# EAGLE library part 24FC1025 (library SCADA_CUSTOM_LIBRARY)
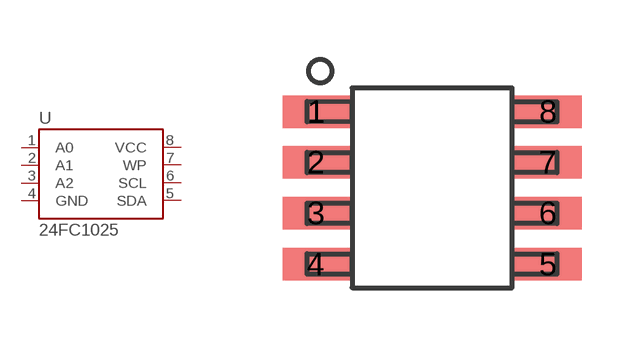
[diagram p18: symbol with the pads of 8-SOIC_HAND_SOLDER; footprint 8-SOIC_HAND_SOLDER]

Designator prefix U

## 24FC1025  [8-SOIC_HAND_SOLDER]
1  A0
2  A1
3  A2
4  GND  pwr
5  SDA
6  SCL
7  WP
8  VCC  pwr

## Footprint 8-SOIC_HAND_SOLDER (pad centres in mm)
smd 1.676 x 0.813: 1 -2.9,1.91; 2 -2.9,0.64; 3 -2.9,-0.63; 4 -2.9,-1.91; 5 2.9,-1.91; 6 2.9,-0.63; 7 2.9,0.64; 8 2.9,1.91